# Altium footprint library WCH沁恒.pcblib: 132 footprints (part 9 of 9)
Each footprint in its own frame and in the unit in brackets; x right, y up, seen from the top. Pads: shape width x height; smd on the part's side, far side on the other; paste and mask are expansions set on the pad; w line width, h text height; cw(c..) or ccw(c..) is an arc to the next point about the centre after c.
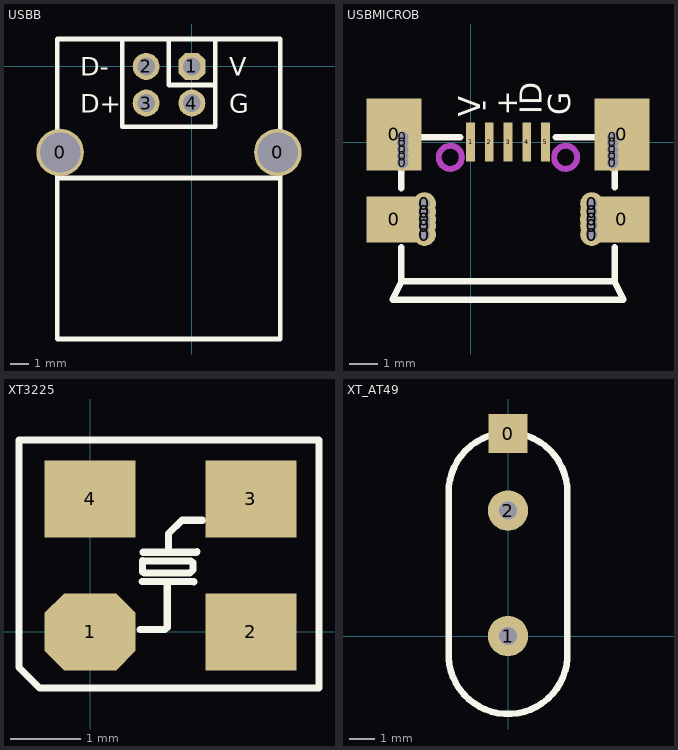
[diagram p8: the footprints below, top view; thin cyan lines are the x and y axes]

## USBB [mm]
pads (6):
  round 2.6 hole 2.2: 0(-7.2,-4.7) 0(4.7,-4.7)
  oct 1.473x1.473 hole 0.965: 1(0,0)
  round 1.473 hole 0.965: 2(-2.5,0) 3(-2.5,-2) 4(0,-2)
TopOverlay:
  lines w0.254: -7.366,-6.096 4.826,-6.096 ; -7.366,-3.302 -7.366,1.5 4.826,1.5 4.826,-3.58 ; -7.366,-3.048 -7.366,-14.9 4.826,-14.9 4.826,-1.016 ; -3.81,1.5 -3.81,-3.302 1.27,-3.302 1.27,1.5 ; -1.27,1.5 -1.27,-1.016 1.27,-1.016
  text "D-" at -6.096,-0.508 h1.02
  text "D+" at -6.096,-2.54 h1.02
  text "V" at 2.032,-0.508 h1.02
  text "G" at 2.032,-2.54 h1.02

## USBMICROB [mm]
pads (29):
  rect 1.9x1.6 smd: 0(-2.65,-2.675) 0(5.25,-2.675)
  rect 1.9x2.5 smd: 0(-2.65,0.271) 0(5.25,0.271)
  round 0.6 hole 0.4: 0(-2.349,-0.708) 0(-2.349,-0.483) 0(-2.349,-0.254) 0(-2.349,-0.025) 0(-2.349,0.178) 0(4.927,-0.708) 0(4.928,-0.483) 0(4.928,-0.254) 0(4.928,-0.025) 0(4.928,0.178)
  round 0.8 hole 0.4: 0(-1.6,-2.675) 0(-1.596,-3.2) 0(-1.596,-2.896) 0(-1.596,-2.413) 0(-1.596,-2.134) 0(4.2,-2.675) 0(4.204,-3.2) 0(4.204,-2.896) 0(4.204,-2.413) 0(4.204,-2.134)
  rect 0.3x1.35 smd: 1(0,0) 2(0.65,0) 3(1.3,0) 4(1.95,0) 5(2.6,0)
TopOverlay:
  lines w0.229: -2.4,-3.65 -2.4,-4.825 ; -2.4,-1.592 -2.4,0.175 -0.351,0.175 ; 2.951,0.175 5,0.175 5,-1.558 ; 5,-3.65 5,-4.825 ; -2.4,-4.825 5,-4.825 ; -2.4,-4.825 -2.7,-5.455 5.3,-5.455 5,-4.825
  text "ID" at 2.464,0.965 h0.76
  text "G" at 3.454,0.94 h0.76
  text "V" at 0.33,0.889 h0.76
  text "-" at 0.203,1.448 h0.76
  text "+" at 1.626,0.914 h0.76
KeepOutLayer:
  circle w0.203: c3.3,-0.525 r0.4
  circle w0.203: c-0.7,-0.525 r0.4
Mechanical1:
  circle w0.203: c-0.7,-0.525 r0.4
  circle w0.203: c3.3,-0.525 r0.4

## XT3225 [mm]
pads (4):
  oct 1.3x1.1 smd: 1(0,0)
  rect 1.3x1.1 smd: 2(2.3,0) 3(2.3,1.9) 4(0,1.9)
TopOverlay:
  lines w0.102: 0.713,0.033 1.073,0.033 1.104,0.064 1.104,0.66 ; 0.744,0.722 1.476,0.722 1.482,0.716 ; 0.75,1.013 1.445,1.013 1.47,0.988 1.47,0.883 1.426,0.84 0.769,0.84 0.75,0.858 0.75,1.019 ; 0.757,1.137 1.519,1.137 1.532,1.15 ; 1.122,1.205 1.122,1.404 1.315,1.596 1.606,1.596 ; -1.017,-0.512 -1.017,2.743 3.274,2.743 3.274,-0.804 -0.725,-0.804 -1.017,-0.512

## XT_AT49 [mil]
pads (3):
  rect 60x60 smd: 0(0,310)
  round 62 hole 28: 1(0,0) 2(0,192.13)
TopOverlay:
  lines w10: -90.88,-33.02 ccw(c0,-28.35) 90.87,-33.26 ; -90.55,-37.8 -90.55,229.92 ; -90.4,229.22 cw(c0,220.47) 90.4,229.17 ; 90.55,-38 90.55,229.92